# EAGLE library part D1503 (library acs)
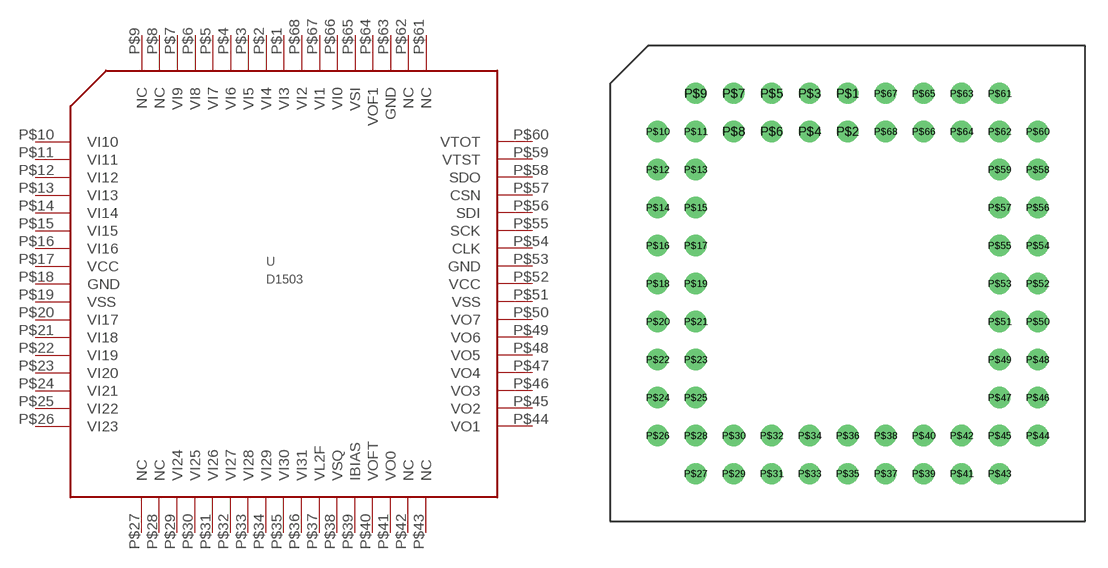
[diagram p2: symbol with the pads of LCC68_SOCKET; footprint LCC68_SOCKET]

Designator prefix -

## D1503  [LCC68_SOCKET]
P$1  VI3
P$2  VI4
P$3  VI5
P$4  VI6
P$5  VI7
P$6  VI8
P$7  VI9
P$8  NC
P$9  NC
P$10  VI10
P$11  VI11
P$12  VI12
P$13  VI13
P$14  VI14
P$15  VI15
P$16  VI16
P$17  VCC
P$18  GND
P$19  VSS
P$20  VI17
P$21  VI18
P$22  VI19
P$23  VI20
P$24  VI21
P$25  VI22
P$26  VI23
P$27  NC
P$28  NC
P$29  VI24
P$30  VI25
P$31  VI26
P$32  VI27
P$33  VI28
P$34  VI29
P$35  VI30
P$36  VI31
P$37  VL2F
P$38  VSQ
P$39  IBIAS
P$40  VOFT
P$41  VO0
P$42  NC
P$43  NC
P$44  VO1
P$45  VO2
P$46  VO3
P$47  VO4
P$48  VO5
P$49  VO6
P$50  VO7
P$51  VSS
P$52  VCC
P$53  GND
P$54  CLK
P$55  SCK
P$56  SDI
P$57  CSN
P$58  SDO
P$59  VTST
P$60  VTOT
P$61  NC
P$62  NC
P$63  GND
P$64  VOF1
P$65  VSI
P$66  VI0
P$67  VI1
P$68  VI2

## Footprint LCC68_SOCKET (pad centres in mm)
drill 0.9: P$1 0,0; P$2 0,-2.54; P$3 -2.54,0; P$4 -2.54,-2.54; P$5 -5.08,0; P$6 -5.08,-2.54; P$7 -7.62,0; P$8 -7.62,-2.54; P$9 -10.16,0; P$10 -12.7,-2.54; P$11 -10.16,-2.54; P$12 -12.7,-5.08; P$13 -10.16,-5.08; P$14 -12.7,-7.62; P$15 -10.16,-7.62; P$16 -12.7,-10.16; P$17 -10.16,-10.16; P$18 -12.7,-12.7; P$19 -10.16,-12.7; P$20 -12.7,-15.24; P$21 -10.16,-15.24; P$22 -12.7,-17.78; P$23 -10.16,-17.78; P$24 -12.7,-20.32; P$25 -10.16,-20.32; P$26 -12.7,-22.86; P$27 -10.16,-25.4; P$28 -10.16,-22.86; P$29 -7.62,-25.4; P$30 -7.62,-22.86; P$31 -5.08,-25.4; P$32 -5.08,-22.86; P$33 -2.54,-25.4; P$34 -2.54,-22.86; P$35 0,-25.4; P$36 0,-22.86; P$37 2.54,-25.4; P$38 2.54,-22.86; P$39 5.08,-25.4; P$40 5.08,-22.86; P$41 7.62,-25.4; P$42 7.62,-22.86; P$43 10.16,-25.4; P$44 12.7,-22.86; P$45 10.16,-22.86; P$46 12.7,-20.32; P$47 10.16,-20.32; P$48 12.7,-17.78; P$49 10.16,-17.78; P$50 12.7,-15.24; P$51 10.16,-15.24; P$52 12.7,-12.7; P$53 10.16,-12.7; P$54 12.7,-10.16; P$55 10.16,-10.16; P$56 12.7,-7.62; P$57 10.16,-7.62; P$58 12.7,-5.08; P$59 10.16,-5.08; P$60 12.7,-2.54; P$61 10.16,0; P$62 10.16,-2.54; P$63 7.62,0; P$64 7.62,-2.54; P$65 5.08,0; P$66 5.08,-2.54; P$67 2.54,0; P$68 2.54,-2.54